# EAGLE library part DIP8SMD (library smd_parts)
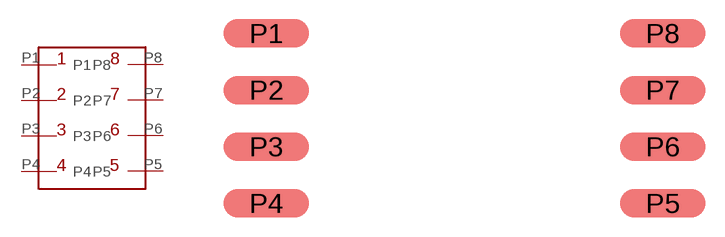
[diagram p1: symbol with the pads of DIP8SMD; footprint DIP8SMD]

Designator prefix -

## DIP8SMDDIP8SMD  [DIP8SMD]
P1  P1
P2  P2
P3  P3
P4  P4
P5  P5
P6  P6
P7  P7
P8  P8

## Footprint DIP8SMD (pad centres in mm)
smd 3.81 x 1.27: P1 -8.89,3.81; P2 -8.89,1.27; P3 -8.89,-1.27; P4 -8.89,-3.81; P5 8.89,-3.81; P6 8.89,-1.27; P7 8.89,1.27; P8 8.89,3.81